# Altium footprint library PG-TSDSON-8.PcbLib: 1 footprints
Each footprint in its own frame and in the unit in brackets; x right, y up, seen from the top. Pads: shape width x height; smd on the part's side, far side on the other; paste and mask are expansions set on the pad; w line width, h text height; cw(c..) or ccw(c..) is an arc to the next point about the centre after c.
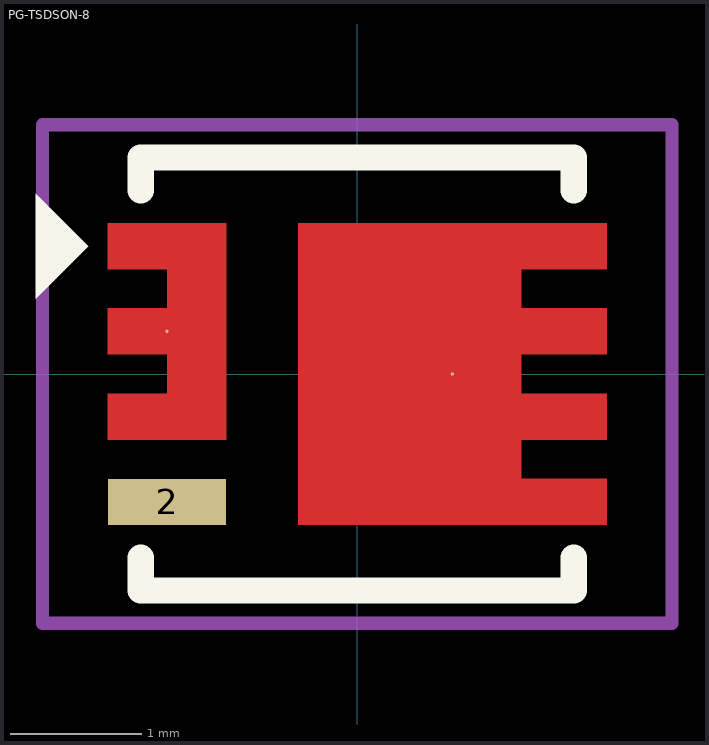
[diagram p0: the footprint, top view; thin cyan lines are the x and y axes]

## PG-TSDSON-8 [mm]
pads (3):
  round 0.025 smd paste-0.45: 1(-1.45,0.325)
  rect 0.9x0.35 smd: 2(-1.45,-0.975)
  round 0.025 smd paste-1.15: 3(0.725,0)
Top Layer:
  region: 1.9,1.15 -0.45,1.15 -0.45,-1.15 1.9,-1.15 1.9,-0.8 1.25,-0.8 1.25,-0.5 1.9,-0.5 1.9,-0.15 1.25,-0.15 1.25,0.15 1.9,0.15 1.9,0.5 1.25,0.5 1.25,0.8 1.9,0.8
  region: -1.9,-0.5 -1,-0.5 -1,1.15 -1.9,1.15 -1.9,0.8 -1.45,0.8 -1.45,0.5 -1.9,0.5 -1.9,0.15 -1.45,0.15 -1.45,-0.15 -1.9,-0.15
Top Overlay:
  region: -2.45,0.575 -2.45,1.375 -2.05,0.975
  lines w0.2: -1.65,-1.4 -1.65,-1.65 1.65,-1.65 1.65,-1.4 ; -1.65,1.4 -1.65,1.65 1.65,1.65 1.65,1.4
Top Paste:
  rectangle: -0.15,-0.85 1,0.85
  rectangle: 1,-1.125 1.875,-0.825
  rectangle: 1,-0.475 1.875,-0.175
  rectangle: 1,0.175 1.875,0.475
  rectangle: 1,0.825 1.875,1.125
  region: -1,1.125 -1.875,1.125 -1.875,0.825 -1,0.825
  region: -1,0.475 -1.875,0.475 -1.875,0.175 -1,0.175
  region: -1,-0.175 -1.875,-0.175 -1.875,-0.475 -1,-0.475
Top Courtyard:
  lines w0.1: -2.4,-1.9 -2.4,1.9 2.4,1.9 2.4,-1.9 -2.4,-1.9
3D body: height 0.8, standoff 0.05, extent -1.447,0.851 -0.85,1.45
3D body: height 0.75, standoff 0.03, extent -1.65,-1.65 1.65,1.65